# Altium footprint library Nanjar's Connectors Library.PcbLib: 70 footprints (part 3 of 5)
Each footprint in its own frame and in the unit in brackets; x right, y up, seen from the top. Pads: shape width x height; smd on the part's side, far side on the other; paste and mask are expansions set on the pad; w line width, h text height; cw(c..) or ccw(c..) is an arc to the next point about the centre after c.
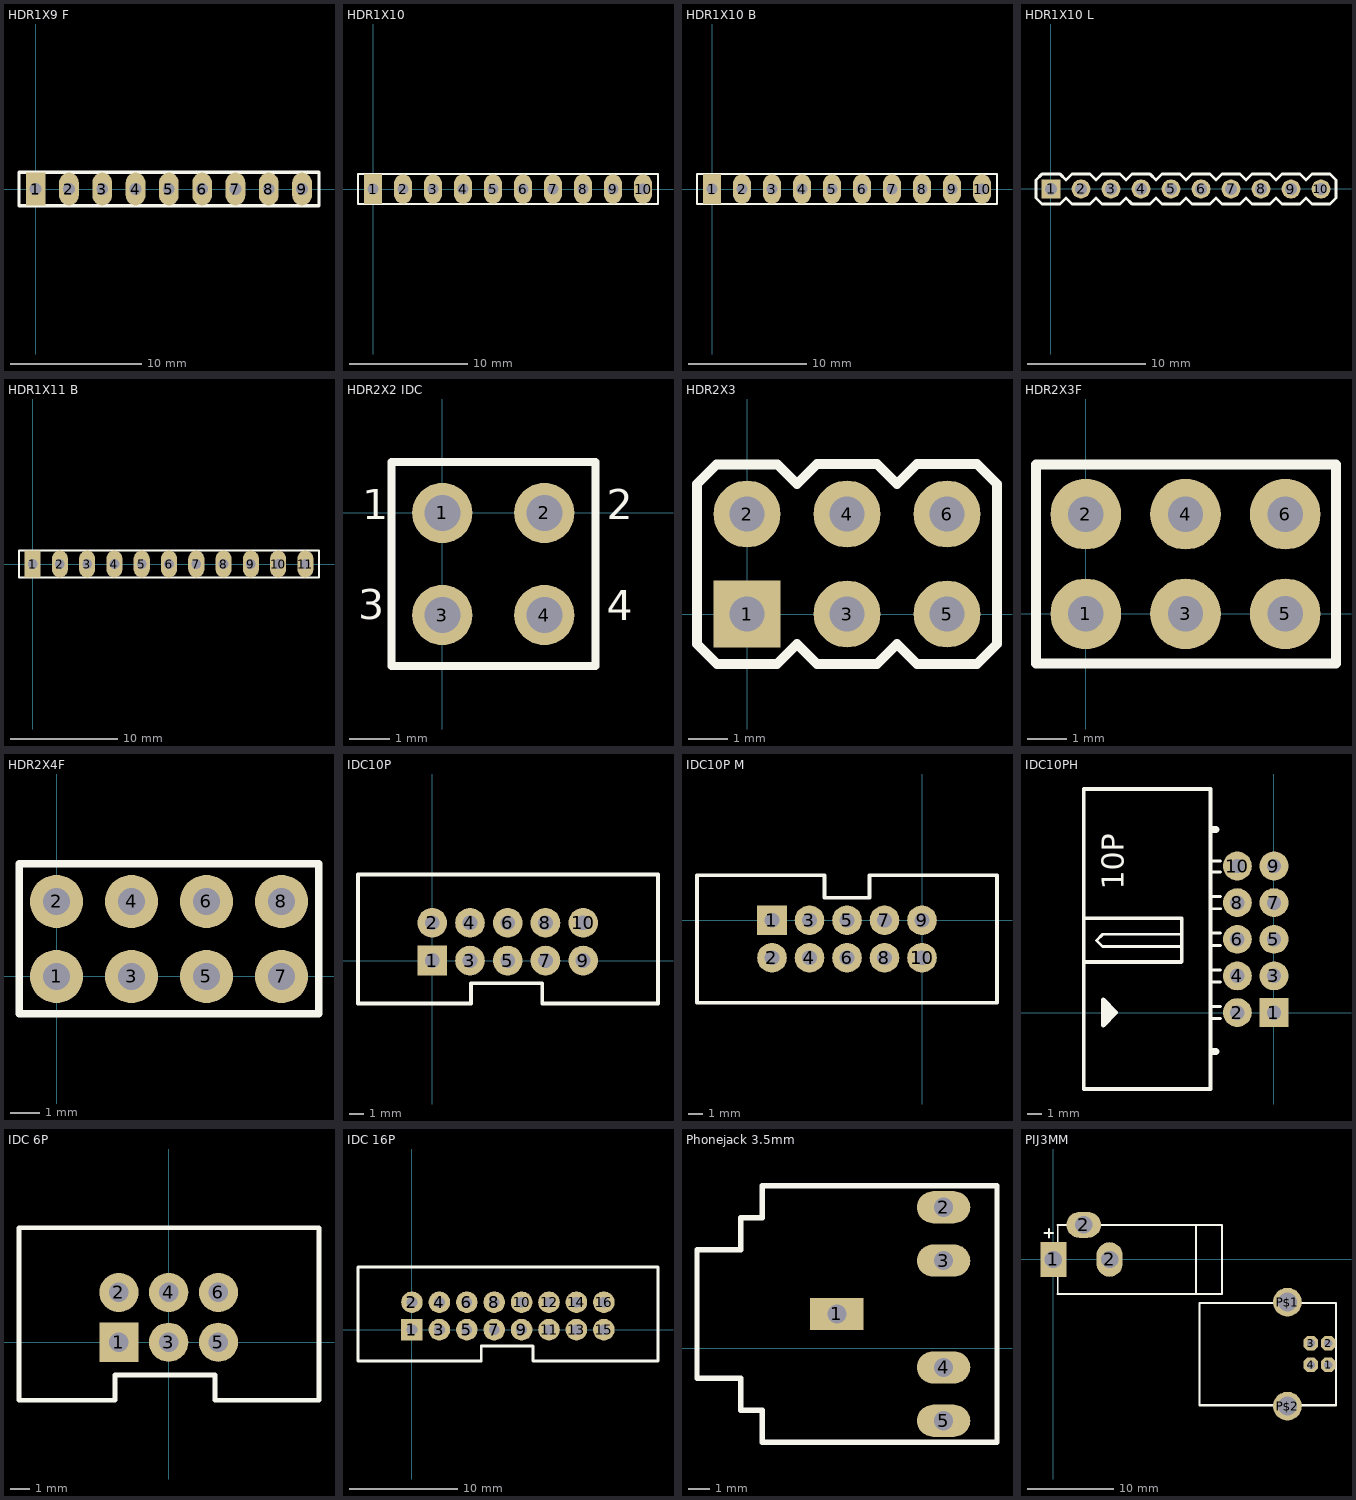
[diagram p2: the footprints below, top view; thin cyan lines are the x and y axes]

## HDR1X9 F [mm]
pads (9):
  rect 1.5x2.5 hole 0.9: 1(0,0)
  oval 1.5x2.5 hole 0.9: 2(2.54,0) 3(5.08,0) 4(7.62,0) 5(10.16,0) 6(12.7,0) 7(15.24,0) 8(17.78,0) 9(20.32,0)
Top Overlay:
  lines w0.254: 21.59,-1.27 -1.27,-1.27 -1.27,1.27 21.59,1.27 ; 21.615,-1.27 21.615,1.27
3D body: height 8, standoff 0.1, extent -1.27,-1.27 19.04,-0.762
3D body: height 8, standoff 0.1, extent -1.27,0.762 19.04,1.27
3D body: height 1, standoff -3, extent 12.35,-0.35 13.05,0.35
3D body: height 8, standoff 0.1, extent 10.922,-0.762 11.938,0.762
3D body: height 1, standoff -3, extent 9.81,-0.35 10.51,0.35
3D body: height 8, standoff 0.1, extent 8.382,-0.762 9.398,0.762
3D body: height 8, standoff 0.1, extent -1.27,-0.762 -0.762,0.762
3D body: height 8, standoff 0.1, extent 0.762,-0.762 1.778,0.762
3D body: height 1, standoff -3, extent -0.35,-0.35 0.35,0.35
3D body: height 1, standoff -3, extent 2.19,-0.35 2.89,0.35
3D body: height 8, standoff 0.1, extent 3.302,-0.762 4.318,0.762
3D body: height 1, standoff -3, extent 4.73,-0.35 5.43,0.35
3D body: height 8, standoff 0.1, extent 5.842,-0.762 6.858,0.762
3D body: height 1, standoff -3, extent 7.27,-0.35 7.97,0.35
3D body: height 1, standoff -3, extent -0.35,-0.35 0.35,0.35
3D body: height 8, standoff 0.1, extent 13.462,-0.762 14.478,0.762
3D body: height 8, standoff 0.1, extent 16.002,-0.762 17.018,0.762
3D body: height 1, standoff -3, extent 14.89,-0.35 15.59,0.35
3D body: height 1, standoff -3, extent 17.43,-0.35 18.13,0.35
3D body: height 8, standoff 0.1, extent 21.107,-0.762 21.615,0.762
3D body: height 1, standoff -3, extent 19.97,-0.35 20.67,0.35
3D body: height 8, standoff 0.1, extent 19.05,0.762 21.615,1.27
3D body: height 8, standoff 0.1, extent 19.05,-1.27 21.615,-0.762
3D body: height 8, standoff 0.1, extent 18.542,-0.762 19.558,0.762

## HDR1X10 [mm] "Connector; Header; 6 Position"
height 1.4
pads (10):
  rect 1.5x2.5 hole 0.9: 1(0,0)
  oval 1.5x2.5 hole 0.9: 2(2.54,0) 3(5.08,0) 4(7.62,0) 5(10.16,0) 6(12.7,0) 7(15.24,0) 8(17.78,0) 9(20.32,0) 10(22.86,0)
Top Overlay:
  lines w0.2: -1.27,-1.27 -1.27,1.27 24.13,1.27 24.13,-1.27 -1.27,-1.27
3D body "1P.step": height 8.54, standoff -2.46, extent 3.81,-1.27 6.35,1.27
3D body "1P.step": height 8.54, standoff -2.46, extent 6.35,-1.27 8.89,1.27
3D body "1P.step": height 8.54, standoff -2.46, extent -1.27,-1.27 1.27,1.27
3D body "1P.step": height 8.54, standoff -2.46, extent 1.27,-1.27 3.81,1.27
3D body "1P.step": height 8.54, standoff -2.46, extent 13.97,-1.27 16.51,1.27
3D body "1P.step": height 8.54, standoff -2.46, extent 16.51,-1.27 19.05,1.27
3D body "1P.step": height 8.54, standoff -2.46, extent 8.89,-1.27 11.43,1.27
3D body "1P.step": height 8.54, standoff -2.46, extent 11.43,-1.27 13.97,1.27
3D body "1P.step": height 8.54, standoff -2.46, extent 19.05,-1.27 21.59,1.27
3D body "1P.step": height 8.54, standoff -2.46, extent 21.59,-1.27 24.13,1.27

## HDR1X10 B [mm]
pads (10):
  rect 1.5x2.5 hole 0.9: 1(0,0)
  oval 1.5x2.5 hole 0.9: 2(2.54,0) 3(5.08,0) 4(7.62,0) 5(10.16,0) 6(12.7,0) 7(15.24,0) 8(17.78,0) 9(20.32,0) 10(22.86,0)
Top Overlay:
  lines w0.2: -1.27,-1.27 24.13,-1.27 24.13,1.27 -1.27,1.27 -1.27,-1.27
3D body "1P.step": height 0.65, standoff -10.35, extent 6.35,-1.27 8.89,1.27
3D body "1P.step": height 0.65, standoff -10.35, extent 3.81,-1.27 6.35,1.27
3D body "1P.step": height 0.65, standoff -10.35, extent 1.27,-1.27 3.81,1.27
3D body "1P.step": height 0.65, standoff -10.35, extent -1.27,-1.27 1.27,1.27
3D body "1P.step": height 0.65, standoff -10.35, extent 16.51,-1.27 19.05,1.27
3D body "1P.step": height 0.65, standoff -10.35, extent 13.97,-1.27 16.51,1.27
3D body "1P.step": height 0.65, standoff -10.35, extent 11.43,-1.27 13.97,1.27
3D body "1P.step": height 0.65, standoff -10.35, extent 8.89,-1.27 11.43,1.27
3D body "1P.step": height 0.65, standoff -10.35, extent 21.59,-1.27 24.13,1.27
3D body "1P.step": height 0.65, standoff -10.35, extent 19.05,-1.27 21.59,1.27

## HDR1X10 L [mm] "Connector; Header; 30 Position"
pads (10):
  rect 1.6x1.6 hole 0.99: 1(0,0)
  round 1.6 hole 0.99: 2(2.54,0) 3(5.08,0) 4(7.62,0) 5(10.16,0) 6(12.7,0) 7(15.24,0) 8(17.78,0) 9(20.32,0) 10(22.86,0)
Top Overlay:
  lines w0.254: 6.868,-1.27 7.62,-1.27 8.382,-1.27 8.89,-0.762 9.398,-1.27 10.922,-1.27 11.43,-0.762 11.938,-1.27 13.462,-1.27 13.97,-0.762 14.478,-1.27 16.002,-1.27 16.51,-0.762 17.018,-1.27 18.542,-1.27 19.05,-0.762 19.558,-1.27 21.082,-1.27 21.59,-0.762 22.098,-1.27 23.622,-1.27 24.13,-0.762 24.13,0.762 23.622,1.27 22.098,1.27 21.59,0.762 21.082,1.27 19.558,1.27 19.05,0.762 18.542,1.27 17.018,1.27 16.51,0.762 16.002,1.27 14.478,1.27 13.97,0.762 13.462,1.27 11.938,1.27 11.43,0.762 10.922,1.27 9.398,1.27 8.89,0.762 8.392,1.26 ; 8.487,1.165 8.382,1.27 6.858,1.27 6.35,0.762 5.842,1.27 4.318,1.27 3.81,0.762 3.302,1.27 1.778,1.27 1.27,0.762 0.772,1.26 ; 0.762,1.26 0.772,1.26 ; 0.762,1.26 0.772,1.26 ; 0.762,1.26 0.01,1.26 -0.772,1.26 -1.27,0.762 -1.27,-0.762 -0.762,-1.27 0,-1.27 0.762,-1.27 1.27,-0.762 1.778,-1.27 3.302,-1.27 3.81,-0.762 4.318,-1.27 5.842,-1.27 6.35,-0.762 6.848,-1.26 ; 6.848,-1.26 6.858,-1.26 6.848,-1.26
3D body: height 2.5, standoff 0, extent 21.59,-1.27 24.13,1.27
3D body: height 2.5, standoff 0, extent 19.05,-1.27 21.59,1.27
3D body: height 8.5, standoff -7, extent 19.97,-0.35 20.67,0.35
3D body: height 8.5, standoff -7, extent 22.51,-0.35 23.21,0.35
3D body: height 8.5, standoff -7, extent 17.43,-0.35 18.13,0.35
3D body: height 8.5, standoff -7, extent 14.89,-0.35 15.59,0.35
3D body: height 2.5, standoff 0, extent 13.97,-1.27 16.51,1.27
3D body: height 2.5, standoff 0, extent 16.51,-1.27 19.05,1.27
3D body: height 2.5, standoff 0, extent -1.27,-1.27 1.27,1.27
3D body: height 8.5, standoff -7, extent -0.35,-0.35 0.35,0.35
3D body: height 2.5, standoff 0, extent 3.81,-1.27 6.35,1.27
3D body: height 2.5, standoff 0, extent 6.35,-1.27 8.89,1.27
3D body: height 2.5, standoff 0, extent 11.43,-1.27 13.97,1.27
3D body: height 2.5, standoff 0, extent 8.89,-1.27 11.43,1.27
3D body: height 2.5, standoff 0, extent 1.27,-1.27 3.81,1.27
3D body: height 8.5, standoff -7, extent 2.19,-0.35 2.89,0.35
3D body: height 8.5, standoff -7, extent 4.73,-0.35 5.43,0.35
3D body: height 8.5, standoff -7, extent 7.27,-0.35 7.97,0.35
3D body: height 8.5, standoff -7, extent 9.81,-0.35 10.51,0.35
3D body: height 8.5, standoff -7, extent 12.35,-0.35 13.05,0.35

## HDR1X11 B [mm]
pads (11):
  rect 1.5x2.5 hole 0.9: 1(0,0)
  oval 1.5x2.5 hole 0.9: 2(2.54,0) 3(5.08,0) 4(7.62,0) 5(10.16,0) 6(12.7,0) 7(15.24,0) 8(17.78,0) 9(20.32,0) 10(22.86,0) 11(25.4,0)
Top Overlay:
  lines w0.2: -1.27,-1.27 26.67,-1.27 26.67,1.27 -1.27,1.27 -1.27,-1.27
3D body "1P.step": height 0.65, standoff -10.35, extent 6.35,-1.27 8.89,1.27
3D body "1P.step": height 0.65, standoff -10.35, extent 3.81,-1.27 6.35,1.27
3D body "1P.step": height 0.65, standoff -10.35, extent 1.27,-1.27 3.81,1.27
3D body "1P.step": height 0.65, standoff -10.35, extent -1.27,-1.27 1.27,1.27
3D body "1P.step": height 0.65, standoff -10.35, extent 16.51,-1.27 19.05,1.27
3D body "1P.step": height 0.65, standoff -10.35, extent 13.97,-1.27 16.51,1.27
3D body "1P.step": height 0.65, standoff -10.35, extent 11.43,-1.27 13.97,1.27
3D body "1P.step": height 0.65, standoff -10.35, extent 8.89,-1.27 11.43,1.27
3D body "1P.step": height 0.65, standoff -10.35, extent 21.59,-1.27 24.13,1.27
3D body "1P.step": height 0.65, standoff -10.35, extent 19.05,-1.27 21.59,1.27
3D body "1P.step": height 0.65, standoff -10.35, extent 24.13,-1.27 26.67,1.27

## HDR2X2 IDC [mm] "Connector; Header; 2x2 Position"
height 5.08
pads (4):
  round 1.5 hole 0.9: 1(0,0) 2(2.54,0) 3(0,-2.54) 4(2.54,-2.54)
Top Overlay:
  lines w0.2: -1.27,-3.81 -1.27,1.27 3.81,1.27 3.81,-3.81 -1.27,-3.81
  text "1" at -2,-0.4 h1.27
  text "2" at 4.1,-0.4 h1.27
  text "4" at 4.1,-2.914 h1.27
  text "3" at -2.1,-2.9 h1.27
3D body "1P.step": height 8.54, standoff -2.46, extent -1.27,-1.27 1.27,1.27
3D body "1P.step": height 8.54, standoff -2.46, extent 1.27,-1.27 3.81,1.27
3D body "1P.step": height 8.54, standoff -2.46, extent -1.27,-3.81 1.27,-1.27
3D body "1P.step": height 8.54, standoff -2.46, extent 1.27,-3.81 3.81,-1.27

## HDR2X3 [mm] "Connector; Header; 3 Position"
height 1.4
pads (6):
  rect 1.7x1.7 hole 0.9: 1(0,0)
  round 1.7 hole 0.9: 2(0,2.54) 3(2.54,0) 4(2.54,2.54) 5(5.08,0) 6(5.08,2.54)
Top Overlay:
  lines w0.254: 0.762,3.8 0.01,3.8 -0.772,3.8 -1.27,3.302 -1.27,-0.762 -0.762,-1.27 0,-1.27 0.762,-1.27 1.27,-0.762 1.778,-1.27 3.302,-1.27 3.81,-0.762 4.318,-1.27 5.842,-1.27 6.35,-0.762 6.35,3.302 5.842,3.81 4.318,3.81 3.81,3.302 3.302,3.81 1.778,3.81 1.27,3.302 0.772,3.8 ; 0.762,3.8 0.772,3.8 ; 0.762,3.8 0.772,3.8
3D body "1P.step": height 8.54, standoff -2.46, extent 1.27,-1.27 3.81,1.27
3D body "1P.step": height 8.54, standoff -2.46, extent -1.27,-1.27 1.27,1.27
3D body "1P.step": height 8.54, standoff -2.46, extent 3.81,-1.27 6.35,1.27
3D body "1P.step": height 8.54, standoff -2.46, extent 1.27,1.27 3.81,3.81
3D body "1P.step": height 8.54, standoff -2.46, extent -1.27,1.27 1.27,3.81
3D body "1P.step": height 8.54, standoff -2.46, extent 3.81,1.27 6.35,3.81

## HDR2X3F [mm]
pads (6):
  round 1.8 hole 0.9: 1(0,0) 2(0,2.54) 3(2.54,0) 4(2.54,2.54) 5(5.08,0) 6(5.08,2.54)
Top Overlay:
  lines w0.254: -1.27,-1.27 -1.27,1.27 -1.27,3.81 6.375,3.81 6.375,1.27 6.375,-1.27 -1.27,-1.27
3D body: height 8, standoff 0.1, extent 5.867,1.778 6.375,3.302
3D body: height 1, standoff -3, extent -0.35,2.19 0.35,2.89
3D body: height 1, standoff -3, extent 4.73,2.19 5.43,2.89
3D body: height 8, standoff 0.1, extent 3.302,1.778 4.318,3.302
3D body: height 1, standoff -3, extent 2.19,2.19 2.89,2.89
3D body: height 1, standoff -3, extent -0.35,2.19 0.35,2.89
3D body: height 8, standoff 0.1, extent 0.762,1.778 1.778,3.302
3D body: height 8, standoff 0.1, extent -1.27,1.778 -0.762,3.302
3D body: height 8, standoff 0.1, extent -1.27,3.302 6.375,3.81
3D body: height 8, standoff 0.1, extent -1.27,1.27 6.375,1.778
3D body: height 8, standoff 0.1, extent -1.27,-1.27 6.375,-0.762
3D body: height 8, standoff 0.1, extent -1.27,0.762 6.375,1.27
3D body: height 8, standoff 0.1, extent -1.27,-0.762 -0.762,0.762
3D body: height 8, standoff 0.1, extent 0.762,-0.762 1.778,0.762
3D body: height 1, standoff -3, extent -0.35,-0.35 0.35,0.35
3D body: height 1, standoff -3, extent 2.19,-0.35 2.89,0.35
3D body: height 8, standoff 0.1, extent 3.302,-0.762 4.318,0.762
3D body: height 1, standoff -3, extent 4.73,-0.35 5.43,0.35
3D body: height 1, standoff -3, extent -0.35,-0.35 0.35,0.35
3D body: height 8, standoff 0.1, extent 5.867,-0.762 6.375,0.762

## HDR2X4F [mm]
pads (8):
  round 1.8 hole 0.9: 1(0,0) 2(0,2.54) 3(2.54,0) 4(2.54,2.54) 5(5.08,0) 6(5.08,2.54) 7(7.62,0) 8(7.62,2.54)
Top Overlay:
  lines w0.254: -1.27,-1.27 -1.27,1.27 -1.27,3.81 8.89,3.81 8.89,1.27 8.89,-1.27 -1.27,-1.27
3D body: height 8, standoff 0.1, extent -1.27,-1.27 8.89,-0.762
3D body: height 8, standoff 0.1, extent -1.27,0.762 8.89,1.27
3D body: height 8, standoff 0.1, extent -1.27,-0.762 -0.762,0.762
3D body: height 8, standoff 0.1, extent 0.762,-0.762 1.778,0.762
3D body: height 1, standoff -3, extent -0.35,-0.35 0.35,0.35
3D body: height 1, standoff -3, extent 2.19,-0.35 2.89,0.35
3D body: height 8, standoff 0.1, extent 3.302,-0.762 4.318,0.762
3D body: height 1, standoff -3, extent 4.73,-0.35 5.43,0.35
3D body: height 8, standoff 0.1, extent 5.842,-0.762 6.858,0.762
3D body: height 1, standoff -3, extent 7.27,-0.35 7.97,0.35
3D body: height 1, standoff -3, extent -0.35,-0.35 0.35,0.35
3D body: height 8, standoff 0.1, extent 8.382,-0.762 8.89,0.762
3D body: height 8, standoff 0.1, extent 8.382,1.778 8.89,3.302
3D body: height 1, standoff -3, extent -0.35,2.19 0.35,2.89
3D body: height 1, standoff -3, extent 7.27,2.19 7.97,2.89
3D body: height 8, standoff 0.1, extent 5.842,1.778 6.858,3.302
3D body: height 1, standoff -3, extent 4.73,2.19 5.43,2.89
3D body: height 8, standoff 0.1, extent 3.302,1.778 4.318,3.302
3D body: height 1, standoff -3, extent 2.19,2.19 2.89,2.89
3D body: height 1, standoff -3, extent -0.35,2.19 0.35,2.89
3D body: height 8, standoff 0.1, extent 0.762,1.778 1.778,3.302
3D body: height 8, standoff 0.1, extent -1.27,1.778 -0.762,3.302
3D body: height 8, standoff 0.1, extent -1.27,3.302 8.89,3.81
3D body: height 8, standoff 0.1, extent -1.27,1.27 8.89,1.778

## IDC10P [mm]
pads (10):
  rect 2x2 hole 1: 1(0,0)
  round 2 hole 1: 2(0,2.54) 3(2.54,0) 4(2.54,2.54) 5(5.08,0) 6(5.08,2.54) 7(7.62,0) 8(7.62,2.54) 9(10.16,0) 10(10.16,2.54)
Top Overlay:
  lines w0.254: -5,-2.9 -5,5.8 15.2,5.8 15.2,-2.9 7.4,-2.9 7.4,-1.524 5.08,-1.524 2.6,-1.524 2.6,-2.9 -5,-2.9
3D body "User Library-IDC Socket Male 10pin Straight THT Goldplated 2_54mm.step": height 9.43, standoff -2.97, extent -5.06,-2.982 15.24,5.868

## IDC10P M [mm]
pads (10):
  rect 2x2 hole 1: 1(-10.16,0)
  round 2 hole 1: 2(-10.16,-2.54) 3(-7.62,0) 4(-7.62,-2.54) 5(-5.08,0) 6(-5.08,-2.54) 7(-2.54,0) 8(-2.54,-2.54) 9(0,0) 10(0,-2.54)
Top Overlay:
  lines w0.254: -15.24,-5.588 -15.24,3.048 -6.604,3.048 -6.604,1.524 -5.08,1.524 -3.556,1.524 -3.556,3.048 5.08,3.048 5.08,-5.588 -15.24,-5.588

## IDC10PH [mm] "Connector; Header; 5x2 Position; Right Angle"
height 2.032
pads (10):
  rect 2x2 hole 1: 1(0,0)
  round 2 hole 1: 2(-2.54,0) 3(0,2.54) 4(-2.54,2.54) 5(0,5.08) 6(-2.54,5.08) 7(0,7.62) 8(-2.54,7.62) 9(0,10.16) 10(-2.54,10.16)
Top Overlay:
  lines w0.2: -6.375,4.587 -11.887,4.587 -12.3,5 -11.867,5.433 -6.375,5.433 ; -4.373,2.115 -3.7,2.115 ; -4.368,-0.424 -3.7,-0.424 ; -4.367,8.043 -3.7,8.043 ; -4.366,2.963 -3.7,2.963 ; -4.359,0.423 -3.7,0.423 ; -4.327,5.503 -3.7,5.503 ; -4.316,4.657 -3.7,4.657 ; -4.304,7.195 -3.7,7.195 ; -4.275,9.736 -3.7,9.736 ; -4.275,10.5 -3.7,10.5
  lines w0.254: -13.2,3.5 -6.425,3.5 -6.4,3.525 -6.4,6.55 ; -13.2,6.55 -6.4,6.55 ; -6.4,6.55 -6.4,6.55 ; -13.2,-5.3 -13.2,15.5 -4.4,15.5 -4.4,-5.3 -13.2,-5.3
  lines w0.305: -11.713,-0.506 -11.713,0.51 -11.205,0.002 -11.586,-0.379 -11.586,0.129 ; -11.459,0.002 -11.332,0.002 ; -11.84,-0.887 -11.84,0.891 -10.951,0.002 -11.84,-0.887
  lines w0.5: -4.275,-2.7 -4.025,-2.7 ; -4.275,12.7 -4.025,12.7
  text "10P" at -10.4,8.5 h1.52
3D body "User Library-IDC Socket Male 10pin Angled THT Goldplated 2_54mm.step": height 8.98, standoff -2.37, extent -13.195,-5.384 0.365,15.556

## IDC 6P [mm]
pads (6):
  rect 2x2 hole 1: 1(-2.55,0)
  round 2 hole 1: 2(-2.55,2.54) 3(-0.01,0) 4(-0.01,2.54) 5(2.53,0) 6(2.53,2.54)
Top Overlay:
  lines w0.254: -7.645,-2.96 -7.645,5.84 7.66,5.84 7.66,-2.96 2.36,-2.96 2.36,-1.66 -2.74,-1.66 -2.74,-2.96 -7.645,-2.96
3D body "User Library-IDC Socket Male 6pin Straight THT Goldplated 2_54mm.step": height 9.43, standoff -2.97, extent -7.6,-2.98 7.62,5.87

## IDC 16P [mm] "Connector; Header; 8x2 Position"
pads (16):
  rect 2x2 hole 1: 1(0,0)
  round 2 hole 1: 2(0,2.54) 3(2.54,0) 4(2.54,2.54) 5(5.08,0) 6(5.08,2.54) 7(7.62,0) 8(7.62,2.54) 9(10.16,0) 10(10.16,2.54) 11(12.7,0) 12(12.7,2.54) 13(15.24,0) 14(15.24,2.54) 15(17.78,0) 16(17.78,2.54)
Top Overlay:
  lines w0.254: -5,-2.9 -5,5.8 22.8,5.8 22.8,-2.9 11.21,-2.9 11.21,-1.524 8.89,-1.524 6.41,-1.524 6.41,-2.9 -5,-2.9
3D body "User Library-IDC Socket Male 16pin Straight THT Goldplated 2_54mm.STEP": height 9.33, standoff -3.07, extent -5.07,-2.98 22.85,5.87

## Phonejack 3.5mm [mm]
pads (5):
  rect 2.5x1.5 hole 0.9: 1(8.3,1.6)
  oval 2.5x1.5 hole 0.9: 2(13.3,6.6) 3(13.3,4.1) 4(13.3,-0.9) 5(13.3,-3.4)
Top Overlay:
  lines w0.254: 1.75,1.6 1.75,-1.4 3.8,-1.4 3.8,-2.9 4.8,-2.9 4.8,-4.4 15.8,-4.4 15.8,7.6 4.8,7.6 4.8,6.1 3.8,6.1 3.8,4.6 1.75,4.6 1.75,1.6 ; 1.75,1.6 1.75,1.6
3D body "sj1-3525ng-gr.stp": height 6, standoff -2.8, extent 1.75,-4.4 15.8,7.6

## PIJ3MM [mil]
pads (9):
  rect 118.11x157.48 hole 78.74: 1(0,0)
  oct 66x66 hole 38: 1(1251.35,-480.12) 2(1251.35,-380.91) 3(1172.35,-380.91) 4(1172.35,-480.12)
  oval 157.48x118.11 hole 78.74: 2(138.11,157.48)
  oval 118.11x157.48 hole 78.74: 2(256.22,0)
  round 130.5 hole 87: P$1(1065.35,-193.9) P$2(1065.35,-667.12)
Top Overlay:
  lines w7.87: -40,120 0,120 ; -20,100 -20,140 ; 20,-157.48 20,157.48 ; 768.03,-157.48 768.03,157.48
  lines w10: 20,-157.48 768.03,-157.48 ; 20,157.48 768.03,157.48 ; 649.92,-157.48 649.92,157.48 ; 665.75,-663.12 1286.35,-663.12 1286.35,-197.83 665.75,-197.83 665.75,-663.12